# Altium schematic symbol library SCH - DRIVER - LED - TI TPS92520-Q1DAP.SchLib: 1 symbol
Pins are listed as number, name and electrical type; pins without a type are passive.

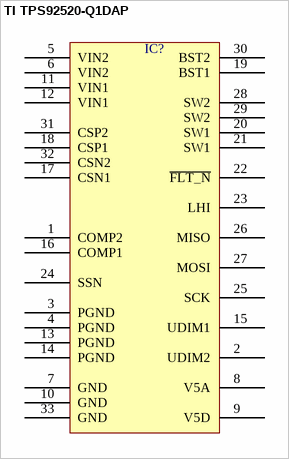
[diagram p0: symbol TI TPS92520-Q1DAP]

## TI TPS92520-Q1DAP
designator IC?  (value not drawn)
pins: 1 COMP2, 2 UDIM2, 3 PGND, 4 PGND, 5 VIN2, 6 VIN2, 7 GND, 8 V5A, 9 V5D, 10 GND, 11 VIN1, 12 VIN1, 13 PGND, 14 PGND, 15 UDIM1, 16 COMP1, 17 CSN1, 18 CSP1, 19 BST1, 20 SW1, 21 SW1, 22 ~{FLT_N}, 23 LHI, 24 SSN, 25 SCK, 26 MISO, 27 MOSI, 28 SW2, 29 SW2, 30 BST2, 31 CSP2, 32 CSN2, 33 GND